# Altium schematic symbol library DRV_SchLib.SchLib: 10 symbols
Pins are listed as number, name and electrical type; pins without a type are passive.

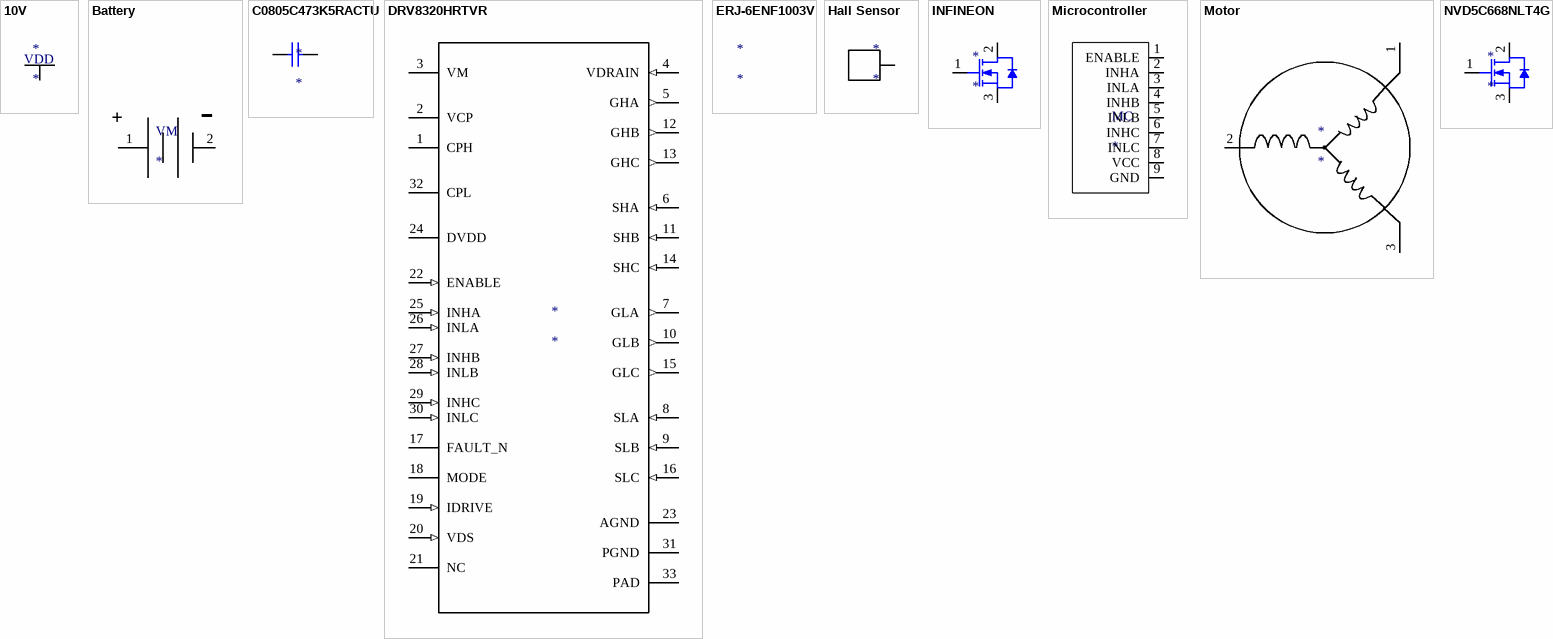
[diagram p0: symbols 10V to NVD5C668NLT4G]

## 10V
designator *
footprint A single pin
pins: 0
text: VDD

## Battery
designator VM
footprint 12 Gauge
pins: 1 (power), 2 (power)
text: -; +

## C0805C473K5RACTU
designator *
0.047µF 50V 10% X7R 0805; Manufacturer 1: KEMET; Manufacturer Part Number 1: C0805C473K5RACTU; Dielectric Material: Ceramic; Capacitance: 47nF; Supplier 1: Digi-Key; Stock 1: 1440571; Pricing 1: 1=0.20000, 10=0.13900, 100=0.06550, 500=0.04590, 1000=0.03800 (USD); RoHS: Yes; Mount: Surface Mount; Case/Package: 0805; Min Operating Temperature: -55°C; Max Operating Temperature: 125°C; Tolerance: 10%; Packaging: Tape and Reel; Dielectric: X7R; Voltage Rating (DC): 50V; Length: 2mm; Height: 0.78mm; Depth: 1.25mm; Radiation Hardening: No; ComponentLink1URL: https://datasheet.ciiva.com/22749/1918693-22749589.pdf?src-supplier=Element14; ComponentLink1Description: https://datasheet.ciiva.com/22749/1918693-22749589.pdf?src-supplier=Element14; Supplier Part Number 1: 399-1166-1-ND
footprint 0805 (0805 SMD, 2-Leads, Body 2.00x1.25mm, IPC Medium Density)
pins: 1, 2

## DRV8320HRTVR
designator *
Manufacturer 1: Texas Instruments; Manufacturer Part Number 1: DRV8320HRTVR; Supplier 1: Digi-Key; Stock 1: 7874; Pricing 1: 1=3.07000, 10=2.75800, 100=2.25960, 500=1.92352, 1000=1.62225 (USD); RoHS: No; Min Operating Temperature: -40°C; Max Operating Temperature: 125°C; Supplier Part Number 1: 296-48909-1-ND
footprint RTV0032E
pins: 1 CPH, 2 VCP (power), 3 VM (power), 4 VDRAIN (in), 5 GHA (out), 6 SHA (in), 7 GLA (out), 8 SLA (in), 9 SLB (in), 10 GLB (out), 11 SHB (in), 12 GHB (out), 13 GHC (out), 14 SHC (in), 15 GLC (out), 16 SLC (in), 17 FAULT_N (oc), 18 MODE, 19 IDRIVE (in), 20 VDS (in), 21 NC, 22 ENABLE (in), 23 AGND (power), 24 DVDD (power), 25 INHA (in), 26 INLA (in), 27 INHB (in), 28 INLB (in), 29 INHC (in), 30 INLC (in), 31 PGND (power), 32 CPL, 33 PAD (power)

## ERJ-6ENF1003V
designator *
RES SMD 100K OHM 1% 1/8W 0805; Manufacturer 1: Panasonic; Manufacturer Part Number 1: ERJ-6ENF1003V; Resistance: 100kR; Power Rating: 125mW; Temperature Coefficient: 100ppm/°C; Voltage Rating (DC): 150V; Supplier 1: Digi-Key; Stock 1: 609098; Pricing 1: 1=0.10000, 10=0.08100, 100=0.03110, 1000=0.01367, 2500=0.01181 (USD); RoHS: Yes; Mount: Surface Mount; Case/Package: 0805; Number of Pins: 2; Case Code (Metric): 2012; Case Code (Imperial): 0805; Contact Plating: Tin; Min Operating Temperature: -55°C; Max Operating Temperature: 155°C; Tolerance: 1%; Packaging: Tape and Reel; Number of Terminations: 2; Package Quantity: 1; Voltage Rating: 150V; Composition: Thick Film; Military Standard: Not; Termination: SMD/SMT; Max Power Dissipation: 125mW; Features: Automotive AEC-Q200; Length: 2mm; Height: 0.6mm; Width: 0.049inch; Depth: 1.25mm; Radiation Hardening: No; REACH SVHC: No SVHC; Lead Free: Lead Free; ComponentLink1URL: https://datasheet.ciiva.com/11821/0900766b80f80784-11821507.pdf?src-supplier=RSComponents; ComponentLink1Description: https://datasheet.ciiva.com/11821/0900766b80f80784-11821507.pdf?src-supplier=RSComponents; ComponentLink2URL: https://datasheet.ciiva.com/22723/426256-22723909.pdf?src-supplier=Element14; ComponentLink2Description: https://datasheet.ciiva.com/22723/426256-22723909.pdf?src-supplier=Element14; ComponentLink3URL: https://datasheet.ciiva.com/46419/1678782-46419877.pdf?src-supplier=Element14; ComponentLink3Description: https://datasheet.ciiva.com/46419/1678782-46419877.pdf?src-supplier=Element14; ComponentLink4URL: https://datasheet.ciiva.com/27055/1988989-27055734.pdf?src-supplier=Jameco; ComponentLink4Description: https://datasheet.ciiva.com/27055/1988989-27055734.pdf?src-supplier=Jameco; ComponentLink5URL: https://datasheet.ciiva.com/16449/aoa0000ce2-16449480.pdf?src-supplier=Future+Electronics; ComponentLink5Description: https://datasheet.ciiva.com/16449/aoa0000ce2-16449480.pdf?src-supplier=Future+Electronics; ComponentLink6URL: https://datasheet.ciiva.com/17208/aoa0000ce2-17208153.pdf?src-supplier=Avnet+Europe; ComponentLink6Description: https://datasheet.ciiva.com/17208/aoa0000ce2-17208153.pdf?src-supplier=Avnet+Europe; ComponentLink7URL: https://datasheet.ciiva.com/22667/1678782-22667897.pdf?src-supplier=Element14; ComponentLink7Description: https://datasheet.ciiva.com/22667/1678782-22667897.pdf?src-supplier=Element14; ComponentLink8URL: https://datasheet.ciiva.com/24023/aoa0000ce2-24023497.pdf?src-supplier=Mouser; ComponentLink8Description: https://datasheet.ciiva.com/24023/aoa0000ce2-24023497.pdf?src-supplier=Mouser; ComponentLink9URL: https://datasheet.ciiva.com/7830/426256-7830746.pdf?src-supplier=Element14; ComponentLink9Description: https://datasheet.ciiva.com/7830/426256-7830746.pdf?src-supplier=Element14; ComponentLink10URL: https://datasheet.ciiva.com/30257/aoa0000ce2-30257690.pdf?src-supplier=Onlinecomponents.com; ComponentLink10Description: https://datasheet.ciiva.com/30257/aoa0000ce2-30257690.pdf?src-supplier=Onlinecomponents.com; ComponentLink11URL: https://datasheet.ciiva.com/7830/426256-7830988.pdf?src-supplier=Element14; ComponentLink11Description: https://datasheet.ciiva.com/7830/426256-7830988.pdf?src-supplier=Element14; ComponentLink12URL: https://datasheet.ciiva.com/16776/70260748-16776892.pdf?src-supplier=Allied+Electronics; ComponentLink12Description: https://datasheet.ciiva.com/16776/70260748-16776892.pdf?src-supplier=Allied+Electronics; ComponentLink13URL: https://datasheet.ciiva.com/16788/70260748-16788734.pdf?src-supplier=Allied+Electronics; ComponentLink13Description: https://datasheet.ciiva.com/16788/70260748-16788734.pdf?src-supplier=Allied+Electronics; ComponentLink14URL: https://datasheet.ciiva.com/48531/aoa0000ce2-48531486.pdf?src-supplier=Avnet; ComponentLink14Description: https://datasheet.ciiva.com/48531/aoa0000ce2-48531486.pdf?src-supplier=Avnet; Supplier Part Number 1: P100KCCT-ND

## Hall Sensor
designator *
footprint A single pin
pins: 0

## INFINEON
designator *
footprint MOSFET-2
pins: 1 G, 2 D, 3 S

## Microcontroller
designator MC
footprint SMTC-SSW-104-02-X-D (SQ Post Socket, 2x4 Pins, Vertical, 2.54mm Pitch, Female)
pins: 1 ENABLE, 2 INHA, 3 INLA, 4 INHB, 5 INLB, 6 INHC, 7 INLC, 8 VCC, 9 GND

## Motor
designator *
footprint Motor
pins: 1 A, 2 B, 3 C

## NVD5C668NLT4G
designator *
MOSFET N-CHANNEL 60V 49A DPAK; Manufacturer 1: ON Semiconductor; Manufacturer Part Number 1: NVD5C668NLT4G; Supplier 1: Digi-Key; Stock 1: 4328; Pricing 1: 1=0.96000, 10=0.86000, 100=0.67060, 500=0.55400, 1000=0.43736 (USD); RoHS: No; ComponentLink1URL: http://www.onsemi.com/pub/Collateral/NVD5C668NL-D.PDF?src-supplier=Digi-Key; ComponentLink1Description: http://www.onsemi.com/pub/Collateral/NVD5C668NL-D.PDF?src-supplier=Digi-Key; Supplier Part Number 1: NVD5C668NLT4GOSCT-ND
footprint MOSFET
pins: 1 G, 2 D, 3 S